# Altium footprint library Passive.PcbLib: 49 footprints (part 1 of 4)
Each footprint in its own frame and in the unit in brackets; x right, y up, seen from the top. Pads: shape width x height; smd on the part's side, far side on the other; paste and mask are expansions set on the pad; w line width, h text height; cw(c..) or ccw(c..) is an arc to the next point about the centre after c.
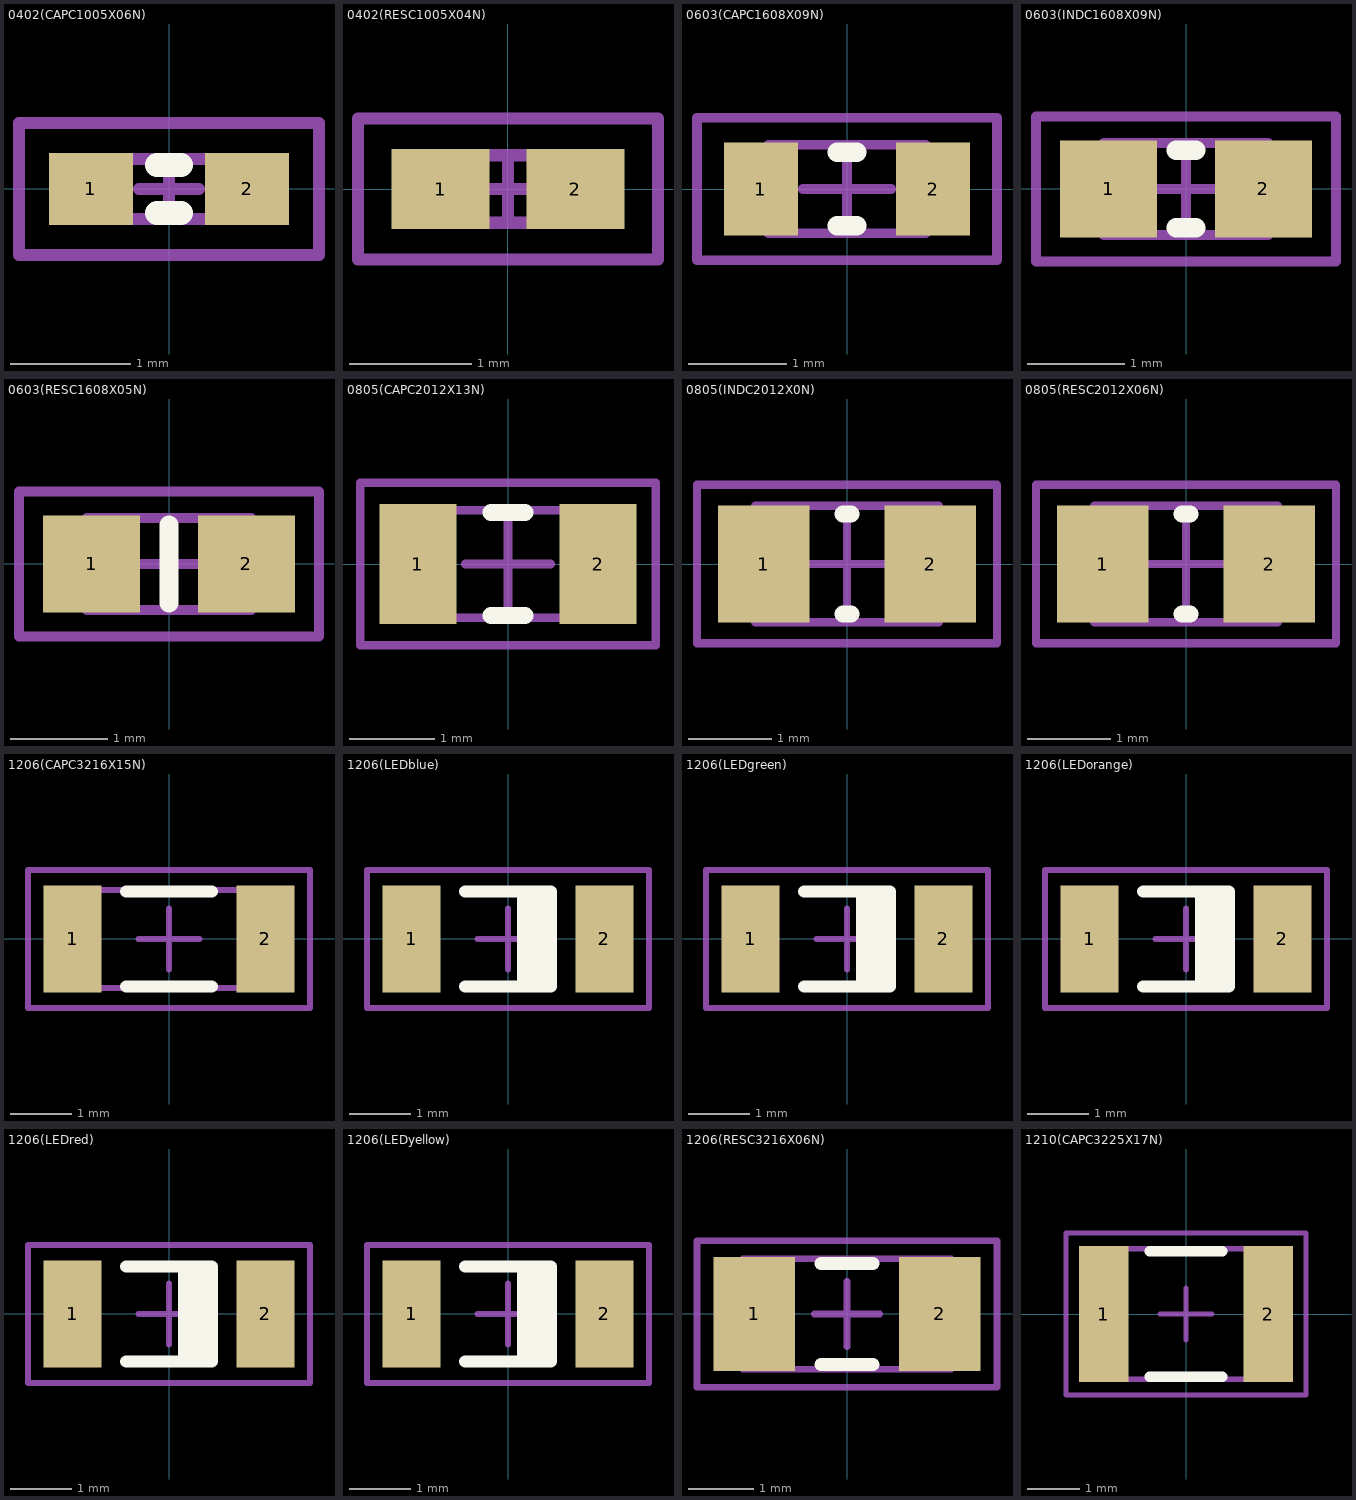
[diagram p0: the footprints below, top view; thin cyan lines are the x and y axes]

## 0402(CAPC1005X06N) [mm] "Chip Capacitor, 2-Leads, Body 1,0x0,5mm, IPC Medium Density"
height 0.55
pads (2):
  rect 0.7x0.6 smd: 1(-0.65,0) 2(0.65,0)
Top Overlay:
  lines w0.2: -0.1,-0.2 0.1,-0.2 ; -0.1,0.2 0.1,0.2
Mechanical 13:
  lines w0.1: -0.5,-0.25 -0.5,0.25 0.5,0.25 0.5,-0.25 -0.5,-0.25
Mechanical 15:
  lines w0.1: -0.25,0 0.25,0 ; 0,-0.25 0,0.25 ; -1.25,-0.55 -1.25,0.55 1.25,0.55 1.25,-0.55 -1.25,-0.55
3D body "User Library-Chip Capacitor2.step": height 0.6, standoff 0, extent -0.5,-0.25 0.5,0.25

## 0402(RESC1005X04N) [mm] "Chip Resistor, 2-Leads, Body 1,0x0,5mm, IPC Medium Density"
height 0.4
pads (2):
  rect 0.8x0.65 smd: 1(-0.55,0) 2(0.55,0)
Mechanical 13:
  lines w0.1: -0.55,-0.275 0.55,-0.275 0.55,0.275 -0.55,0.275 -0.55,-0.275
Mechanical 15:
  lines w0.1: -0.275,0 0.275,0 ; 0,-0.275 0,0.275 ; -1.225,-0.575 1.225,-0.575 1.225,0.575 -1.225,0.575 -1.225,-0.575
3D body "User Library-Chip Resistor2.step": height 0.38, standoff 0, extent -0.5,-0.25 0.5,0.25

## 0603(CAPC1608X09N) [mm] "Chip Capacitor, 2-Leads, Body 1,6x0,8mm, IPC Medium Density"
height 0.9
pads (2):
  rect 0.75x0.95 smd mask+0.05: 1(-0.875,0) 2(0.875,0)
Top Overlay:
  lines w0.2: -0.1,-0.375 0.1,-0.375 ; -0.1,0.375 0.1,0.375
Mechanical 13:
  lines w0.1: -0.8,-0.45 0.8,-0.45 0.8,0.45 -0.8,0.45 -0.8,-0.45
Mechanical 15:
  lines w0.1: -0.45,0 0.45,0 ; 0,-0.45 0,0.45 ; -1.525,-0.725 1.525,-0.725 1.525,0.725 -1.525,0.725 -1.525,-0.725
3D body "User Library-Chip Capacitor2.step": height 0.9, standoff 0, extent -0.8,-0.4 0.8,0.4

## 0603(INDC1608X09N) [mm] "Chip Inductor 2-Leads, Body 1,6x0,8mm, IPC Medium Density"
height 0.5
pads (2):
  rect 1x1 smd: 1(-0.8,0) 2(0.8,0)
Top Overlay:
  lines w0.2: -0.1,-0.4 0.1,-0.4 ; -0.1,0.4 0.1,0.4
Mechanical 13:
  lines w0.1: -0.85,-0.475 -0.85,0.475 0.85,0.475 0.85,-0.475 -0.85,-0.475
Mechanical 15:
  lines w0.1: -0.475,0 0.475,0 ; 0,-0.475 0,0.475 ; -1.55,-0.75 -1.55,0.75 1.55,0.75 1.55,-0.75 -1.55,-0.75
3D body "User Library-Chip Inductor.step": height 0.95, standoff 0, extent -0.8,-0.4 0.8,0.4

## 0603(RESC1608X05N) [mm] "Chip Resistor, 2-Leads, Body 1,6x0,8mm, IPC Medium Density"
height 0.5
pads (2):
  rect 1x1 smd mask+0.05: 1(-0.8,0) 2(0.8,0)
Top Overlay:
  lines w0.2: 0,-0.4 0,0.4
Mechanical 13:
  lines w0.1: -0.85,-0.475 0.85,-0.475 0.85,0.475 -0.85,0.475 -0.85,-0.475
Mechanical 15:
  lines w0.1: -0.475,0 0.475,0 ; 0,-0.475 0,0.475 ; -1.55,-0.75 1.55,-0.75 1.55,0.75 -1.55,0.75 -1.55,-0.75
3D body "User Library-Chip Resistor2.step": height 0.38, standoff 0, extent -0.8,-0.4 0.8,0.4

## 0805(CAPC2012X13N) [mm] "Chip Capacitor, 2-Leads, Body 2,0x1,3mm, IPC Medium Density"
height 1.3
pads (2):
  rect 0.9x1.4 smd: 1(-1.05,0) 2(1.05,0)
Top Overlay:
  lines w0.2: -0.2,-0.6 0.2,-0.6 ; -0.2,0.6 0.2,0.6
Mechanical 13:
  lines w0.1: -1,-0.625 -1,0.625 1,0.625 1,-0.625 -1,-0.625
Mechanical 15:
  lines w0.1: -0.5,0 0.5,0 ; 0,-0.5 0,0.5 ; -1.725,-0.95 -1.725,0.95 1.725,0.95 1.725,-0.95 -1.725,-0.95
3D body "User Library-Chip Capacitor2.step": height 1.3, standoff 0, extent -1,-0.6 1,0.6

## 0805(INDC2012X0N) [mm] "Chip Inductor, 2-Leads, Body 2,1x1,3mm, IPC Medium Density"
height 0.55
pads (2):
  rect 1.1x1.4 smd: 1(-1,0) 2(1,0)
Top Overlay:
  lines w0.2: -0.05,-0.6 0.05,-0.6 ; -0.05,0.6 0.05,0.6
Mechanical 13:
  lines w0.1: -1.1,-0.7 -1.1,0.7 1.1,0.7 1.1,-0.7 -1.1,-0.7
Mechanical 15:
  lines w0.1: -0.5,0 0.5,0 ; 0,-0.5 0,0.5 ; -1.8,-0.95 -1.8,0.95 1.8,0.95 1.8,-0.95 -1.8,-0.95
3D body "User Library-Chip Inductor.step": height 0.95, standoff 0, extent -1,-0.6 1,0.6

## 0805(RESC2012X06N) [mm] "Chip Resistor, 2-Leads, Body 2,1x1,3mm, IPC Medium Density"
height 0.55
pads (2):
  rect 1.1x1.4 smd: 1(-1,0) 2(1,0)
Top Overlay:
  lines w0.2: -0.05,-0.6 0.05,-0.6 ; -0.05,0.6 0.05,0.6
Mechanical 13:
  lines w0.1: -1.1,-0.7 1.1,-0.7 1.1,0.7 -1.1,0.7 -1.1,-0.7
Mechanical 15:
  lines w0.1: -0.5,0 0.5,0 ; 0,-0.5 0,0.5 ; -1.8,-0.95 1.8,-0.95 1.8,0.95 -1.8,0.95 -1.8,-0.95
3D body "User Library-Chip Resistor2.step": height 0.6, standoff 0, extent -1,-0.6 1,0.6

## 1206(CAPC3216X15N) [mm] "Chip Capacitor, 2-Leads, Body 3,2x1,6mm, IPC Medium Density"
height 1.5
pads (2):
  rect 0.95x1.75 smd: 1(-1.575,0) 2(1.575,0)
Top Overlay:
  lines w0.2: -0.7,-0.775 0.7,-0.775 ; -0.7,0.775 0.7,0.775
Mechanical 13:
  lines w0.1: -1.6,-0.8 -1.6,0.8 1.6,0.8 1.6,-0.8 -1.6,-0.8
Mechanical 15:
  lines w0.1: -0.5,0 0.5,0 ; 0,-0.5 0,0.5 ; -2.3,-1.125 -2.3,1.125 2.3,1.125 2.3,-1.125 -2.3,-1.125
3D body "User Library-Chip Capacitor2.step": height 1.52, standoff 0, extent -1.6,-0.8 1.6,0.8

## 1206(LEDblue) [mm] "Chip Capacitor, 2-Leads, Body 3,2x1,6mm, IPC Medium Density"
height 1.1
pads (2):
  rect 0.95x1.75 smd: 1(-1.575,0) 2(1.575,0)
Top Overlay:
  rectangle: 0.15,-0.775 0.7,0.775
  lines w0.2: -0.7,-0.775 0.7,-0.775 0.7,0.775 -0.7,0.775
Mechanical 15:
  lines w0.1: -0.5,0 0.5,0 ; 0,-0.5 0,0.5 ; -2.3,-1.125 2.3,-1.125 2.3,1.125 -2.3,1.125 -2.3,-1.125
3D body "User Library-led_1206b.step": height 1.1, standoff 0, extent -1.61,-0.8 1.61,0.8

## 1206(LEDgreen) [mm] "Chip Capacitor, 2-Leads, Body 3,2x1,6mm, IPC Medium Density"
height 1.1
pads (2):
  rect 0.95x1.75 smd: 1(-1.575,0) 2(1.575,0)
Top Overlay:
  rectangle: 0.15,-0.775 0.7,0.775
  lines w0.2: -0.7,-0.775 0.7,-0.775 0.7,0.775 -0.7,0.775
Mechanical 15:
  lines w0.1: -0.5,0 0.5,0 ; 0,-0.5 0,0.5 ; -2.3,-1.125 -2.3,1.125 2.3,1.125 2.3,-1.125 -2.3,-1.125
3D body "User Library-led_1206.step": height 1.1, standoff 0, extent -1.61,-0.8 1.61,0.8

## 1206(LEDorange) [mm] "Chip Capacitor, 2-Leads, Body 3,2x1,6mm, IPC Medium Density"
height 1.1
pads (2):
  rect 0.95x1.75 smd: 1(-1.575,0) 2(1.575,0)
Top Overlay:
  rectangle: 0.15,-0.775 0.7,0.775
  lines w0.2: -0.7,-0.775 0.7,-0.775 0.7,0.775 -0.7,0.775
Mechanical 15:
  lines w0.1: -0.5,0 0.5,0 ; 0,-0.5 0,0.5 ; -2.3,-1.125 -2.3,1.125 2.3,1.125 2.3,-1.125 -2.3,-1.125
3D body "User Library-led_1206o.step": height 1.1, standoff 0, extent -1.61,-0.8 1.61,0.8

## 1206(LEDred) [mm] "Chip Capacitor, 2-Leads, Body 3,2x1,6mm, IPC Medium Density"
height 1.1
pads (2):
  rect 0.95x1.75 smd: 1(-1.575,0) 2(1.575,0)
Top Overlay:
  rectangle: 0.15,-0.775 0.7,0.775
  lines w0.2: -0.7,-0.775 0.7,-0.775 0.7,0.775 -0.7,0.775
Mechanical 15:
  lines w0.1: -0.5,0 0.5,0 ; 0,-0.5 0,0.5 ; -2.3,-1.125 2.3,-1.125 2.3,1.125 -2.3,1.125 -2.3,-1.125
3D body "User Library-led_1206.step": height 1.1, standoff 0, extent -1.61,-0.8 1.61,0.8

## 1206(LEDyellow) [mm] "Chip Capacitor, 2-Leads, Body 3,2x1,6mm, IPC Medium Density"
height 1.1
pads (2):
  rect 0.95x1.75 smd: 1(-1.575,0) 2(1.575,0)
Top Overlay:
  rectangle: 0.15,-0.775 0.7,0.775
  lines w0.2: -0.7,-0.775 0.7,-0.775 0.7,0.775 -0.7,0.775
Mechanical 15:
  lines w0.1: -0.5,0 0.5,0 ; 0,-0.5 0,0.5 ; -2.3,-1.125 2.3,-1.125 2.3,1.125 -2.3,1.125 -2.3,-1.125
3D body "User Library-led_1206.step": height 1.1, standoff 0, extent -1.61,-0.8 1.61,0.8

## 1206(RESC3216X06N) [mm] "Chip Resistor, 2-Leads, Body 3,1x1,6mm, IPC Medium Density"
height 0.6
pads (2):
  rect 1.25x1.75 smd: 1(-1.425,0) 2(1.425,0)
Top Overlay:
  lines w0.2: -0.4,-0.775 0.4,-0.775 ; -0.4,0.775 0.4,0.775
Mechanical 13:
  lines w0.1: -1.6,-0.85 -1.6,0.85 1.6,0.85 1.6,-0.85 -1.6,-0.85
Mechanical 15:
  lines w0.1: -0.5,0 0.5,0 ; 0,-0.5 0,0.5 ; -2.3,-1.125 -2.3,1.125 2.3,1.125 2.3,-1.125 -2.3,-1.125
3D body "User Library-Chip Resistor2.step": height 0.6, standoff 0, extent -1.6,-0.8 1.6,0.8

## 1210(CAPC3225X17N) [mm] "Chip Capacitor, 2-Leads, Body 3,2x2,5mm, IPC Medium Density"
height 1.7
pads (2):
  rect 0.95x2.6 smd: 1(-1.575,0) 2(1.575,0)
Top Overlay:
  lines w0.2: -0.7,-1.2 0.7,-1.2 ; -0.7,1.2 0.7,1.2
Mechanical 13:
  lines w0.1: -1.6,-1.25 1.6,-1.25 1.6,1.25 -1.6,1.25 -1.6,-1.25
Mechanical 15:
  lines w0.1: -0.5,0 0.5,0 ; 0,-0.5 0,0.5 ; -2.3,-1.55 2.3,-1.55 2.3,1.55 -2.3,1.55 -2.3,-1.55
3D body "User Library-Chip Capacitor2.step": height 1.68, standoff 0, extent -1.6,-1.25 1.6,1.25